# Altium footprint library CRJ007-MLG-TH.PcbLib: 1 footprints
Each footprint in its own frame and in the unit in brackets; x right, y up, seen from the top. Pads: shape width x height; smd on the part's side, far side on the other; paste and mask are expansions set on the pad; w line width, h text height; cw(c..) or ccw(c..) is an arc to the next point about the centre after c.
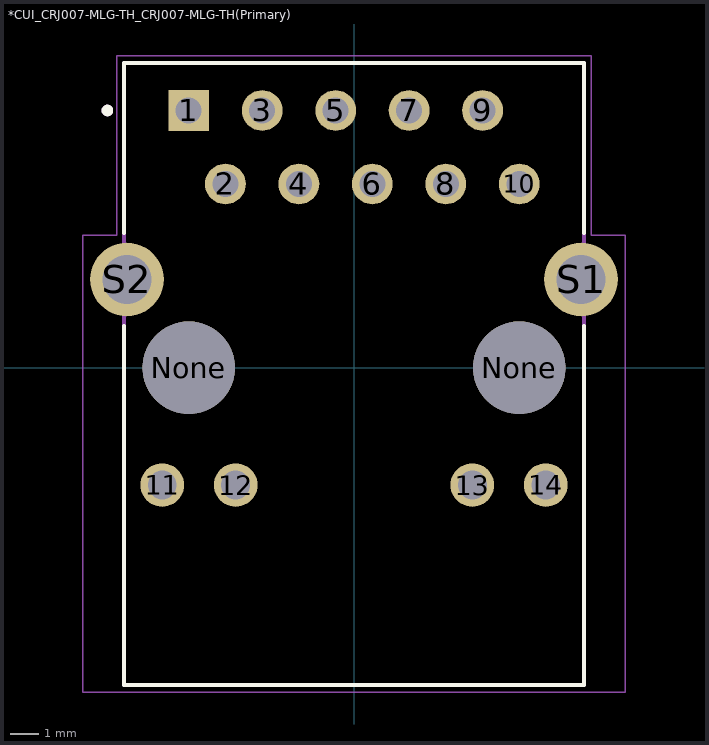
[diagram p0: the footprint, top view; thin cyan lines are the x and y axes]

## *CUI_CRJ007-MLG-TH_CRJ007-MLG-TH(Primary) [mm]
pads (18):
  rect 1.408x1.408 hole 0.9: 1(-5.715,8.89)
  round 1.408 hole 0.9: 2(-4.445,6.35) 3(-3.175,8.89) 4(-1.905,6.35) 5(-0.635,8.89) 6(0.635,6.35) 7(1.905,8.89) 8(3.175,6.35) 9(4.445,8.89) 10(5.715,6.35)
  round 1.508 hole 1: 11(-6.63,-4.06) 12(-4.09,-4.06) 13(4.09,-4.06) 14(6.63,-4.06)
  round 3.2 hole 3.2 unplated: None(-5.715,0) None(5.715,0)
  round 2.55 hole 1.7: S1(7.85,3.05) S2(-7.85,3.05)
Top Overlay:
  circle w0.2: c-8.525,8.89 r0.1
  lines w0.127: -7.95,1.45 -7.95,-10.97 7.95,-10.97 7.95,1.45 ; -7.95,4.65 -7.95,10.53 7.95,10.53 7.95,4.65
Mechanical 4:
  circle w0.2: c-8.525,8.89 r0.1
  circle w0.2: c-8.525,8.89 r0.1
  lines w0.127: -7.95,-10.97 -7.95,10.53 ; -7.95,-10.97 7.95,-10.97 ; -7.95,-10.97 -7.95,10.53 ; -7.95,-10.97 7.95,-10.97 ; -7.95,10.53 7.95,10.53 ; -7.95,10.53 7.95,10.53 ; 7.95,-10.97 7.95,10.53 ; 7.95,-10.97 7.95,10.53
Courtyard Bottom:
  lines w0.05: -9.38,-11.22 -9.38,4.575 -8.2,4.575 -8.2,10.78 8.2,10.78 8.2,4.575 9.38,4.575 9.38,-11.22 -9.38,-11.22
3D body: height 5, standoff -13.95, extent -8.685,-10.959 8.509,10.541